# EAGLE library part MEMORY-1BIT-CELL (library p.peter-logic)
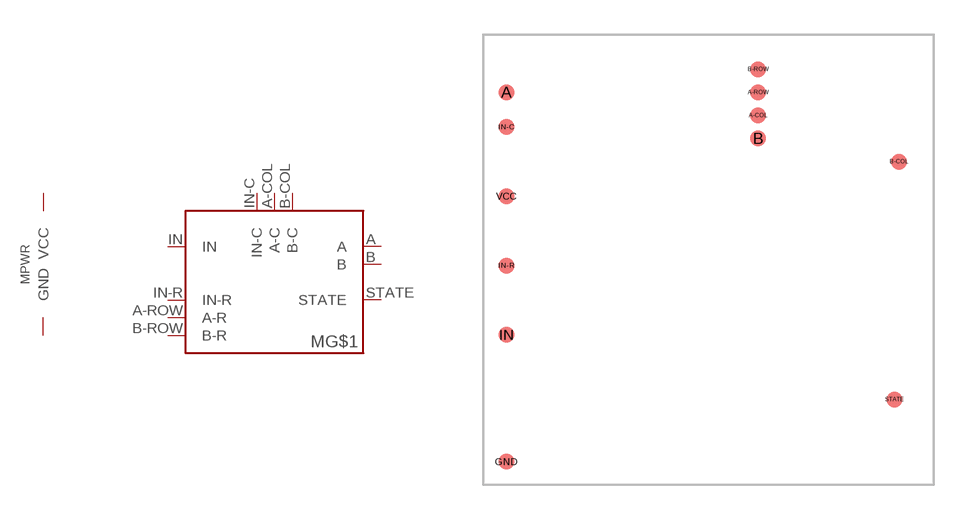
[diagram p3: symbol with the pads of MEMORY-1BIT-CELL; footprint MEMORY-1BIT-CELL]

Designator prefix M; gates G$1=MEMORY-1BIT-CELL PWR=GENERIC-PWR

## MEMORY-1BIT-CELL  [MEMORY-1BIT-CELL]
A  G$1:A  out
A-COL  G$1:A-C  in
A-ROW  G$1:A-R  in
B  G$1:B  out
B-COL  G$1:B-C  in
B-ROW  G$1:B-R  in
GND  PWR:GND
IN  G$1:IN  in
IN-C  G$1:IN-C  in
IN-R  G$1:IN-R  in
STATE  G$1:STATE  out
VCC  PWR:VCC

## Footprint MEMORY-1BIT-CELL (pad centres in mm)
smd 0.7 x 0.7: A 1,17; A-COL 11.9,16; A-ROW 11.9,17; B 11.9,15; B-COL 18,14; B-ROW 11.9,18; GND 1,1; IN 1,6.5; IN-C 1,15.5; IN-R 1,9.5; STATE 17.8,3.7; VCC 1,12.5